# Altium schematic symbol library ESCV3.SchLib: 2 symbols
Pins are listed as number, name and electrical type; pins without a type are passive.

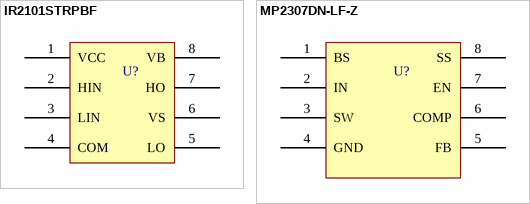
[diagram p0: symbols IR2101STRPBF to MP2307DN-LF-Z]

## IR2101STRPBF
designator U?
footprint IR2101STRPBF
pins: 1 VCC, 2 HIN, 3 LIN, 4 COM, 5 LO, 6 VS, 7 HO, 8 VB

## MP2307DN-LF-Z
designator U?
footprint MP2307DN-LF-Z
pins: 1 BS, 2 IN, 3 SW, 4 GND, 5 FB, 6 COMP, 7 EN, 8 SS